# EAGLE library part CC1310_INT (library Swarm)
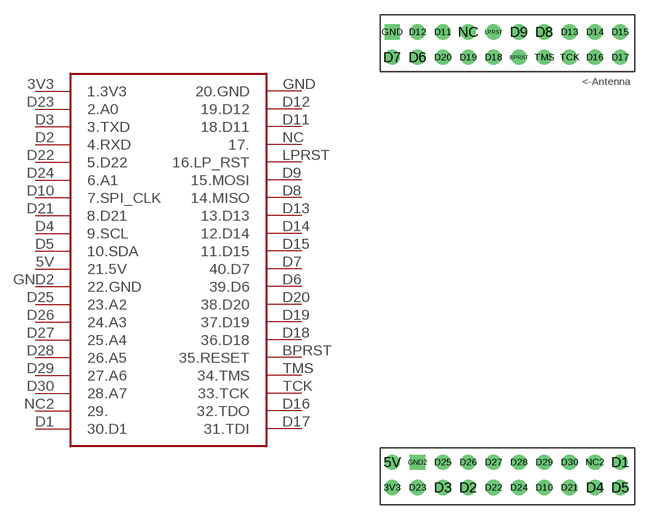
[diagram p6: symbol with the pads of CC1310_INT; footprint CC1310_INT]

Designator prefix -

## CC1310_INT  [CC1310_INT]
3V3  1.3V3
5V  21.5V
BPRST  35.RESET
D1  30.D1
D2  4.RXD
D3  3.TXD
D4  9.SCL
D5  10.SDA
D6  39.D6
D7  40.D7
D8  14.MISO
D9  15.MOSI
D10  7.SPI_CLK
D11  18.D11
D12  19.D12
D13  13.D13
D14  12.D14
D15  11.D15
D16  32.TDO
D17  31.TDI
D18  36.D18
D19  37.D19
D20  38.D20
D21  8.D21
D22  5.D22
D23  2.A0
D24  6.A1
D25  23.A2
D26  24.A3
D27  25.A4
D28  26.A5
D29  27.A6
D30  28.A7
GND  20.GND
GND2  22.GND
LPRST  16.LP_RST
NC  17.
NC2  29.
TCK  33.TCK
TMS  34.TMS

## Footprint CC1310_INT (pad centres in mm)
drill 1.02: 3V3 -10.16,-22.86; 5V -10.16,-20.32; BPRST 2.54,20.32; D1 12.7,-20.32; D2 -2.54,-22.86; D3 -5.08,-22.86; D4 10.16,-22.86; D5 12.7,-22.86; D6 -7.62,20.32; D7 -10.16,20.32; D8 5.08,22.86; D9 2.54,22.86; D10 5.08,-22.86; D11 -5.08,22.86; D12 -7.62,22.86; D13 7.62,22.86; D14 10.16,22.86; D15 12.7,22.86; D16 10.16,20.32; D17 12.7,20.32; D18 0,20.32; D19 -2.54,20.32; D20 -5.08,20.32; D21 7.62,-22.86; D22 0,-22.86; D23 -7.62,-22.86; D24 2.54,-22.86; D25 -5.08,-20.32; D26 -2.54,-20.32; D27 0,-20.32; D28 2.54,-20.32; D29 5.08,-20.32; D30 7.62,-20.32; LPRST 0,22.86; NC -2.54,22.86; NC2 10.16,-20.32; TCK 7.62,20.32; TMS 5.08,20.32
drill 1.02 square: GND -10.16,22.86; GND2 -7.62,-20.32